# Altium schematic symbol library Resistors.SchLib: 12 symbols
Pins are listed as number, name and electrical type; pins without a type are passive.

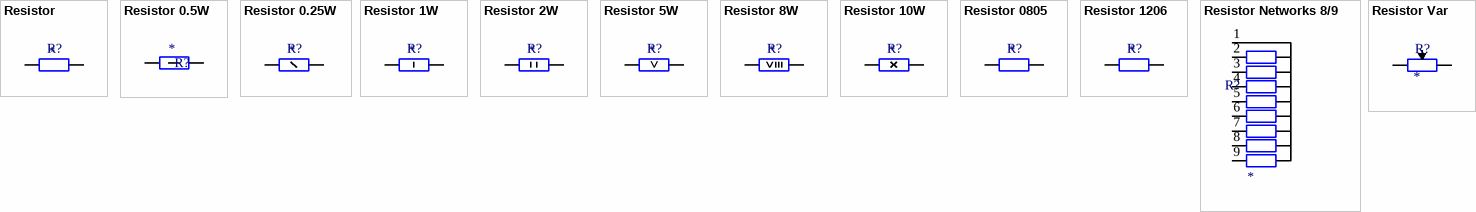
[diagram p0: symbols Resistor to Resistor Var]

## Resistor
designator R?
Resistor; Value: *
footprint Resistor 0.25W
footprint Resistor 0.25W_Vertical
footprint Resistor  0.5W
footprint Resistor  0.5W_Vertical
footprint Resistor 1W
footprint Resistor 1W_m
footprint Resistor 1W_Vertical (Резистор - 1 Вт  постоянный, проволочный прецизионный. D=9mm,  L=19mm, l=20mm - вывод)
footprint Resistor 2W
footprint Resistor 2W_Vertical
footprint R_0603
footprint R_0805 (Resistor Pattern)
footprint R_1206
pins: 1, 2

## Resistor 0.5W
designator R?
Resistor 0.5W; Value: *
footprint Resistor  0.5W
footprint Resistor  0.5W_Vertical
pins: 1, 2

## Resistor 0.25W
designator R?
Resistor 0.25W; Value: *
footprint Resistor 0.25W
footprint Resistor 0.25W_Vertical
pins: 1, 2

## Resistor 1W
designator R?
Resistor 1W; Value: *
footprint Resistor 1W
footprint Resistor 1W_m
footprint Resistor 1W_Vertical (Резистор - 1 Вт  постоянный, проволочный прецизионный. D=9mm,  L=19mm, l=20mm - вывод)
pins: 1, 2

## Resistor 2W
designator R?
Resistor 2W; Value: *
footprint Resistor 2W
footprint Resistor 2W_Vertical
pins: 1, 2

## Resistor 5W
designator R?
Resistor 5W; Value: *
footprint С5-16МВ_5W-10 - WA (Резистор - 5 Вт  постоянный, проволочный прецизионный. D=11mm,  L=32mm, l=20mm - вывод)
footprint С5-16МВ_5W-10 (Резистор - 5 Вт  постоянный, проволочный прецизионный. D=11mm,  L=32mm, l=20mm - вывод)
footprint С5-16МВ_5W-5 - WA (Резистор - 5 Вт  постоянный, проволочный прецизионный. D=11mm,  L=32mm, l=20mm - вывод)
footprint С5-16МВ_5W-5 (Резистор - 5 Вт  постоянный, проволочный прецизионный. D=11mm,  L=32mm, l=20mm - вывод)
pins: 1, 2

## Resistor 8W
designator R?
Resistor 8W; Value: *
footprint С5-16М_8W-10 - WA (Резистор - 8 Вт  постоянный, проволочный прецизионный. D=12mm,  L=41mm, l=20mm - вывод)
footprint С5-16М_8W-10 (Резистор - 8 Вт  постоянный, проволочный прецизионный. D=12mm,  L=41mm, l=20mm - вывод)
footprint С5-16М_8W-5 - WA (Резистор - 8 Вт  постоянный, проволочный прецизионный. D=12mm,  L=41mm, l=20mm - вывод)
footprint С5-16М_8W-5 (Резистор - 8 Вт  постоянный, проволочный прецизионный. D=12mm,  L=41mm, l=20mm - вывод)
pins: 1, 2

## Resistor 10W
designator R?
Resistor 10W; Value: *
footprint С5-16М_10W-10 - WA (Резистор - 10 Вт  постоянный, проволочный прецизионный. D=12mm,  L=51mm, l=20mm - вывод)
footprint С5-16М_10W-10 (Резистор - 10 Вт  постоянный, проволочный прецизионный. D=12mm,  L=51mm, l=20mm - вывод)
footprint С5-16М_10W-5 - WA (Резистор - 10 Вт  постоянный, проволочный прецизионный. D=12mm,  L=51mm, l=20mm - вывод)
footprint С5-16М_10W-5 (Резистор - 10 Вт  постоянный, проволочный прецизионный. D=12mm,  L=51mm, l=20mm - вывод)
pins: 1, 2

## Resistor 0805
designator R?
Resistor 0805; Value: *
footprint R_0805 (Resistor Pattern)
pins: 1, 2

## Resistor 1206
designator R?
Resistor 1206; Value: *
footprint R_1206
pins: 1, 2

## Resistor Networks 8/9
designator R?
Resistor Networks; Value: *
footprint Resistor Network 8/9 0.125W
pins: 1, 2, 3, 4, 5, 6, 7, 8, 9

## Resistor Var
designator R?
Resistor Var; Value: *
footprint Resistor Vatronics 3296Z
footprint Resistor Vatronics 3296Y
footprint Resistor Vatronics 3296X
footprint Resistor Vatronics 3296W
footprint VAR_PVZ3
footprint Resistor СП5-2
pins: 1 A, 2 TAP, 3 B